# EAGLE library part CS42436 (library Strutz Electronic Industries)
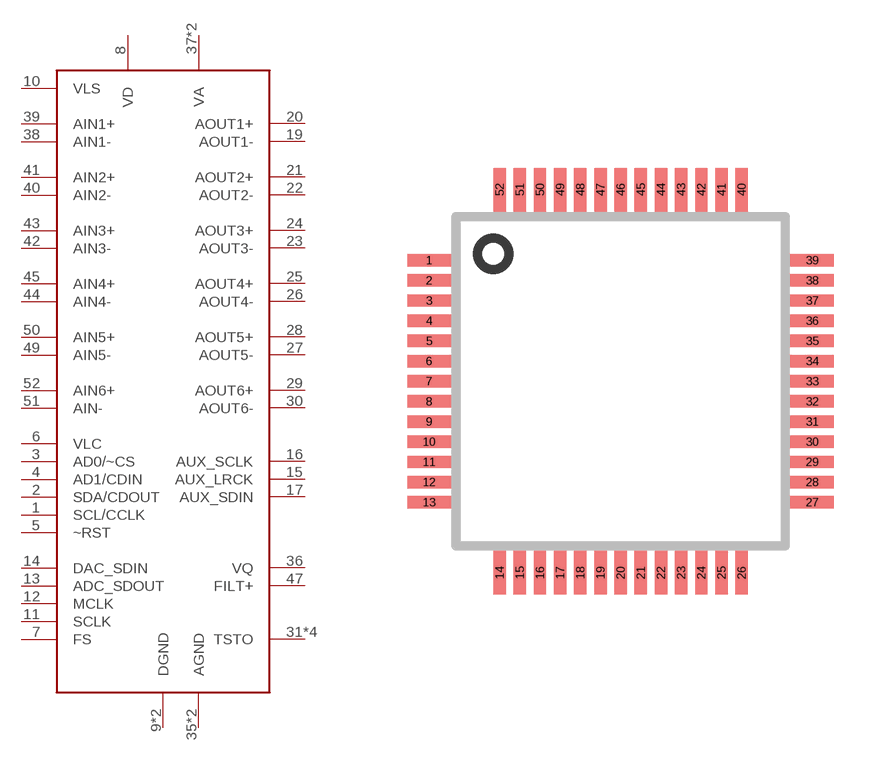
[diagram p28: symbol with the pads of QFP-52; footprint QFP-52]

Designator prefix -

## CS42436  [QFP-52]
1  SCL/CCLK
2  SDA/CDOUT
3  AD0/~CS
4  AD1/CDIN
5  ~RST
6  VLC
7  FS
8  VD
9  DGND
10  VLS
11  SCLK
12  MCLK
13  ADC_SDOUT
14  DAC_SDIN
15  AUX_LRCK
16  AUX_SCLK
17  AUX_SDIN
18  DGND
19  AOUT1-
20  AOUT1+
21  AOUT2+
22  AOUT2-
23  AOUT3-
24  AOUT3+
25  AOUT4+
26  AOUT4-
27  AOUT5-
28  AOUT5+
29  AOUT6+
30  AOUT6-
31  TSTO
32  TSTO
33  TSTO
34  TSTO
35  AGND
36  VQ
37  VA
38  AIN1-
39  AIN1+
40  AIN2-
41  AIN2+
42  AIN3-
43  AIN3+
44  AIN4-
45  AIN4+
46  VA
47  FILT+
48  AGND
49  AIN5-
50  AIN5+
51  AIN-
52  AIN6+

## Footprint QFP-52 (pad centres in mm)
smd 1.4 x 0.4: 1 -6.175,3.9; 2 -6.175,3.25; 3 -6.175,2.6; 4 -6.175,1.95; 5 -6.175,1.3; 6 -6.175,0.65; 7 -6.175,0; 8 -6.175,-0.65; 9 -6.175,-1.3; 10 -6.175,-1.95; 11 -6.175,-2.6; 12 -6.175,-3.25; 13 -6.175,-3.9; 27 6.175,-3.9; 28 6.175,-3.25; 29 6.175,-2.6; 30 6.175,-1.95; 31 6.175,-1.3; 32 6.175,-0.65; 33 6.175,0; 34 6.175,0.65; 35 6.175,1.3; 36 6.175,1.95; 37 6.175,2.6; 38 6.175,3.25; 39 6.175,3.9
smd 0.4 x 1.4: 14 -3.9,-6.175; 15 -3.25,-6.175; 16 -2.6,-6.175; 17 -1.95,-6.175; 18 -1.3,-6.175; 19 -0.65,-6.175; 20 0,-6.175; 21 0.65,-6.175; 22 1.3,-6.175; 23 1.95,-6.175; 24 2.6,-6.175; 25 3.25,-6.175; 26 3.9,-6.175; 40 3.9,6.175; 41 3.25,6.175; 42 2.6,6.175; 43 1.95,6.175; 44 1.3,6.175; 45 0.65,6.175; 46 0,6.175; 47 -0.65,6.175; 48 -1.3,6.175; 49 -1.95,6.175; 50 -2.6,6.175; 51 -3.25,6.175; 52 -3.9,6.175